# Altium schematic symbol library HDMI_TO_MIPI.SchLib: 18 symbols
Pins are listed as number, name and electrical type; pins without a type are passive.

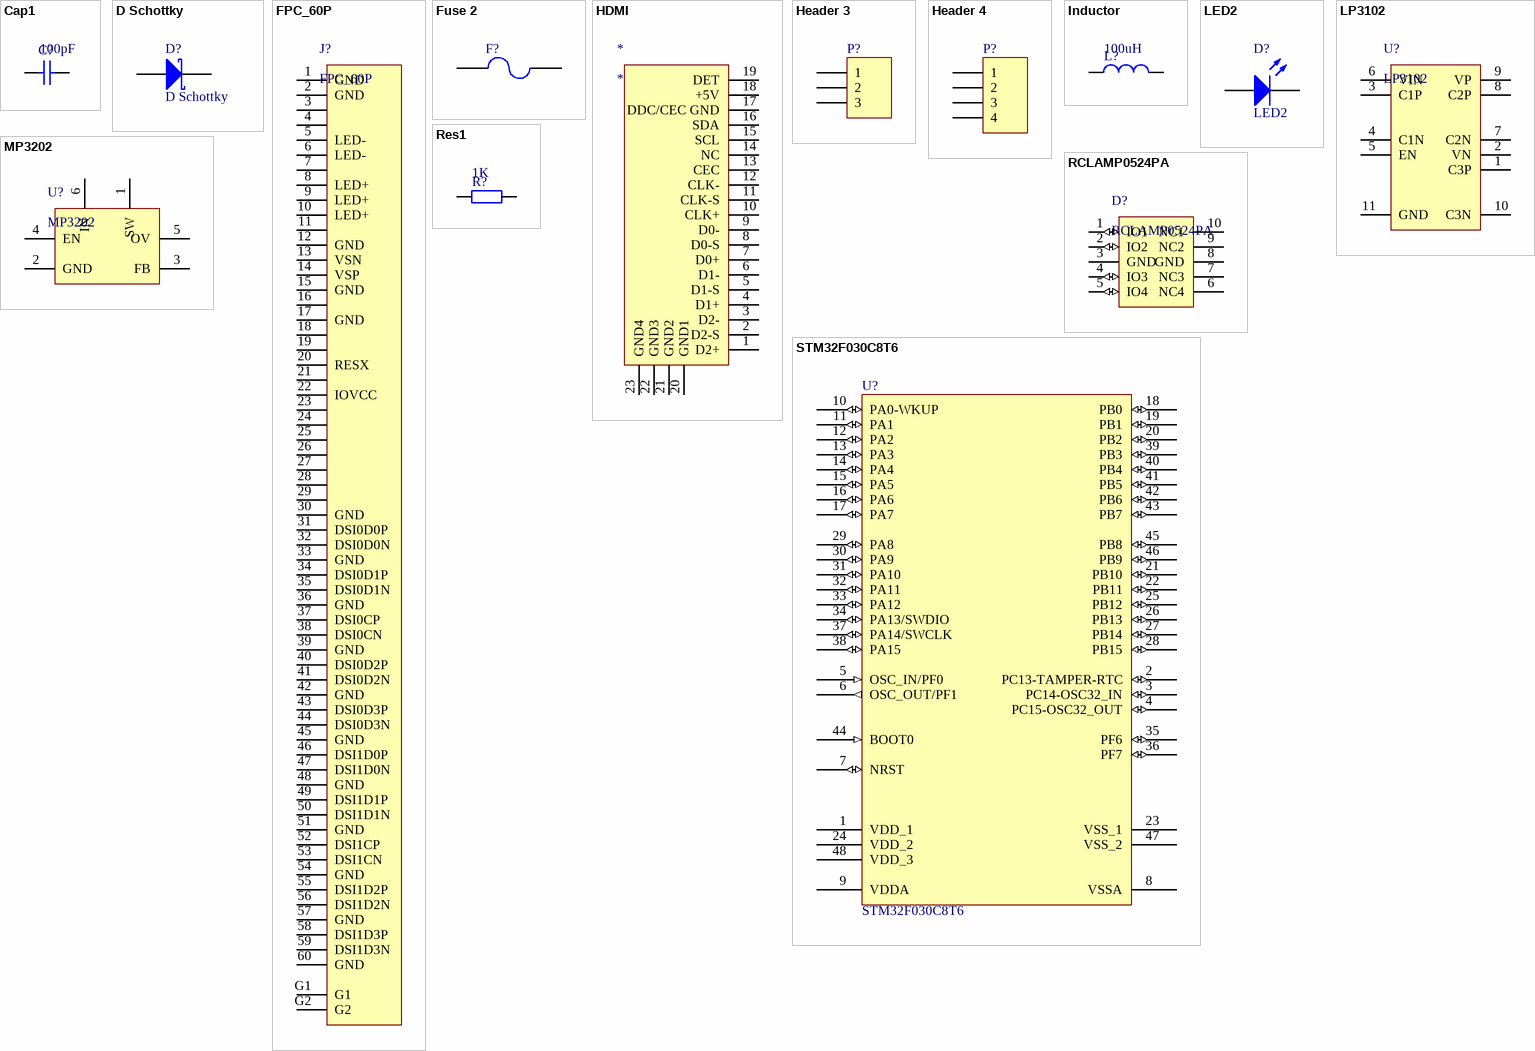
[diagram p0: symbols Cap1 to STM32F030C8T6]

## Cap1
designator C?  value 100pF  (hidden comment: Cap1)
Capacitor; Published: 8-Jun-2000; LatestRevisionDate: 17-Jul-2002; LatestRevisionNote: Re-released for DXP Platform.; PackageReference: RAD-0.3; Publisher: Altium Limited
footprint CAPC2012L (Chip Capacitor, Body 2.0x1.3mm, IPC High Density)
footprint CAPC2012M (Chip Capacitor, Body 2.0x1.3mm, IPC High Density)
footprint CAPC2012N (Chip Capacitor, Body 2.0x1.3mm, IPC Medium Density)
footprint CAPC1005L (Chip Capacitor, Body 1.0x0.5mm, IPC High Density)
footprint CAPC1005M (Chip Capacitor, Body 1.0x0.5mm, IPC Low Density)
footprint CAPC1005N (Chip Capacitor, Body 1.0x0.5mm, IPC Medium Density)
footprint CAPC1608L (Chip Capacitor, Body 1.6x0.8mm, IPC High Density)
footprint CAPC1608M (Chip Capacitor, Body 1.6x0.8mm, IPC Low Density)
footprint CAPC1608N (Chip Capacitor, Body 1.6x0.8mm, IPC Medium Density)
footprint CAPC3216L (Chip Capacitor, Body 3.2x1.6mm, IPC High Density)
footprint CAPC3216M (Chip Capacitor, Body 3.2x1.6mm, IPC Low Density)
footprint CAPC3216N (Chip Capacitor, Body 3.2x1.6mm, IPC Medium Density)
pins: 1, 2

## D Schottky
designator D?
Schottky Diode; Published: 8-Jun-2000; LatestRevisionDate: 17-Jul-2002; LatestRevisionNote: Re-released for DXP Platform.; PackageReference: SMB; Publisher: Altium Limited; Code_JEDEC: DO-214-AA
footprint DO-201AD (Diode, Axial; Body 9.5 x 5.3 mm (LxDia. max), Lead Dia. 1.32 mm (max))
footprint DO-7 (Diode, Axial; Body 7 x 2.7 mm (LxDia. max), Lead Dia. 0.53 mm (max))
footprint DO-35 (Diode, Axial; Body 3.8 x 1.9 mm (LxDia. max), Lead Dia. 0.53 mm (max))
footprint DO-35A (Diode, Axial; Body 4.6 x 1.9 mm (LxDia. max), Lead Dia. 0.53 mm (max))
footprint DO-41 (Diode, Axial; Body 5.2 x 2.7 mm (LxDia. max), Lead Dia. 0.86 mm (max))
footprint DO-204AL (Diode, Axial; Body 5.2 x 2.7 mm (LxDia. max), Lead Dia. 0.86 mm (max))
footprint DO-15-UP
footprint DO-214AC
footprint SOD-323 (SOD-323/SC-76; 2 Leads; Body 1.7 x 1.3 mm, (LxW))
pins: 1 A, 2 K

## FPC_60P
designator J?
footprint FPC0.5_60P
pins: 1 GND, 2 GND, 3, 4, 5 LED-, 6 LED-, 7, 8 LED+, 9 LED+, 10 LED+, 11, 12 GND, 13 VSN, 14 VSP, 15 GND, 16, 17 GND, 18, 19, 20 RESX, 21, 22 IOVCC, 23, 24, 25, 26, 27, 28, 29, 30 GND, 31 DSI0D0P, 32 DSI0D0N, 33 GND, 34 DSI0D1P, 35 DSI0D1N, 36 GND, 37 DSI0CP, 38 DSI0CN, 39 GND, 40 DSI0D2P, 41 DSI0D2N, 42 GND, 43 DSI0D3P, 44 DSI0D3N, 45 GND, 46 DSI1D0P, 47 DSI1D0N, 48 GND, 49 DSI1D1P, 50 DSI1D1N, 51 GND, 52 DSI1CP, 53 DSI1CN, 54 GND, 55 DSI1D2P, 56 DSI1D2N, 57 GND, 58 DSI1D3P, 59 DSI1D3N, 60 GND, G1, G2

## Fuse 2
designator F?
Fuse; Published: 8-Jun-2000; LatestRevisionDate: 17-Jul-2002; LatestRevisionNote: Re-released for DXP Platform.; PackageReference: PIN-W2/E2.8; Publisher: Altium Limited; PackageDescription: Thru-Hole; 2 Leads
simulation model FUSE (Spice Subcircuit)
footprint 1812 (Chip Capacitor, Body 4.5x3.2mm, IPC High Density)
footprint FUSE3216L (Body 3.2x1.6mm, IPC High Density)
footprint FUSE3216M (Body 3.2x1.6mm, IPC Low Density)
footprint FUSE3216N (Body 3.2x1.6mm, IPC Medium Density)
footprint FUSE2012L (Body 2.0x1.2mm, IPC Low Density)
footprint FUSE2012M (Body 2.0x1.2mm, IPC Low Density)
footprint FUSE2012N (Body 2.0x1.2mm, IPC Low Density)
pins: 1, 2

## HDMI
designator *
footprint HDMI19/0.5/S/H/F
pins: 1 D2+, 2 D2-S, 3 D2-, 4 D1+, 5 D1-S, 6 D1-, 7 D0+, 8 D0-S, 9 D0-, 10 CLK+, 11 CLK-S, 12 CLK-, 13 CEC, 14 NC, 15 SCL, 16 SDA, 17 DDC/CEC GND, 18 +5V, 19 DET, 20 GND1, 21 GND2, 22 GND3, 23 GND4

## Header 3
designator P?  (value not drawn)
Header, 3-Pin; LatestRevisionDate: 17-Jul-2002; LatestRevisionNote: Re-released for DXP Platform.; Publisher: Altium Limited
footprint HDR1X3 (Connector; Header; 4 Position)
footprint HX2.54-3
footprint PH2.0-3
footprint HDR1X3_1.27
pins: 1, 2, 3

## Header 4
designator P?  (value not drawn)
Header, 4-Pin; LatestRevisionDate: 17-Jul-2002; LatestRevisionNote: Re-released for DXP Platform.; Publisher: Altium Limited
footprint HDR1X4 (Connector; Header; 4 Position)
footprint HX2.54-4
footprint PH2.0-4
footprint HDR1X4_1.27
pins: 1, 2, 3, 4

## Inductor
designator L?  value 100uH  (hidden comment: Inductor)
Code_IEC: 1005; Published: 8-Jun-2000; LatestRevisionDate: 29-May-2009; LatestRevisionNote: IPC-7351 Footprint Added.; PackageReference: 0402-A; Publisher: Altium Limited; PackageDescription: Chip Inductor; Code_JEITA: 0402
footprint IND_0608_4.8
footprint DO-15-UP
footprint IND_0603
footprint IND_0805
footprint IND_10x10
footprint IND_1206 (Body 3.2x1.6mm, IPC Medium Density)
footprint IND_7032
footprint IND_252010
footprint IND_15x9
pins: 1, 2

## LED2
designator D?
Typical RED, GREEN, YELLOW, AMBER GaAs LED; Published: 8-Jun-2000; LatestRevisionDate: 17-Jul-2002; LatestRevisionNote: Re-released for DXP Platform.; PackageVersion: Feb-2002; PackageReference: 3.2X1.6X1.1; Publisher: Altium Limited; PackageDescription: SM LED; 2 Flat Leads
simulation model LED2 (Diode)
footprint CD1005-0402 (Chip Diode; Body 1.0 x 0.5 mm (LxW typ))
footprint CD1608-0603 (Chip Diode; Body 1.6 x 0.8 mm (LxW typ))
footprint CD2012-0805 (Chip Diode; Body 2.0 x 1.3 mm (LxW typ))
footprint CD3216-1206 (Chip Diode; Body 3.2 x 1.6 mm (LxW typ))
footprint CD1005-0402-L (Chip Diode; Body 1.0 x 0.5 mm (LxW typ))
footprint CD1608-0603-L (Footprint not found)
pins: 1 A, 2 K

## LP3102
designator U?
footprint LP3102 (SON, 10-Leads, Body 3.00x3.00mm, Pitch 0.50mm, Thermal Pad 2.50x1.49mm, IPC Medium Density)
pins: 1 C3P, 2 VN, 3 C1P, 4 C1N, 5 EN, 6 VIN, 7 C2N, 8 C2P, 9 VP, 10 C3N, 11 GND

## MP3202
designator U?
1.3A LED驱动(3串13并)
footprint SOT23-6_L (SOT23, 6-Leads, Body 2.9x1.6mm, Pitch 0.95mm, Lead Span 2.7mm, IPC High Density)
footprint SOT23-6_M (SOT23, 6-Leads, Body 2.9x1.6mm, Pitch 0.95mm, Lead Span 2.7mm, IPC Low Density)
footprint SOT23-6_N (SOT23, 6-Leads, Body 2.9x1.6mm, Pitch 0.95mm, Lead Span 2.7mm, IPC Medium Density)
pins: 1 SW, 2 GND, 3 FB, 4 EN, 5 OV, 6 IN

## RCLAMP0524PA
designator D?
footprint SLP2510P8
pins: 1 IO1 (io), 2 IO2 (io), 3 GND (power), 4 IO3 (io), 5 IO4 (io), 6 NC4 (power), 7 NC3 (power), 8 GND (power), 9 NC2 (power), 10 NC1 (power)

## Res1
designator R?  value 1K  (hidden comment: Res1)
Resistor; Published: 8-Jun-2000; LatestRevisionDate: 17-Jul-2002; LatestRevisionNote: Re-released for DXP Platform.; PackageReference: AXIAL-0.4; Publisher: Altium Limited
footprint RESC2012M (Chip Resistor, Body 2.0x1.2mm, IPC Low Density)
footprint RESC2012L (Chip Resistor, Body 2.0x1.2mm, IPC Low Density)
footprint RESC2012N (Chip Resistor, Body 2.0x1.2mm, IPC Low Density)
footprint RESC1005L (Chip Resistor, Body 1.1x0.5mm, IPC High Density)
footprint RESC1005M (Chip Resistor, Body 1.1x0.5mm, IPC Low Density)
footprint RESC1005N (Chip Resistor, Body 1.1x0.5mm, IPC Medium Density)
footprint RESC1608L (Chip Resistor, Body 1.6x0.8mm, IPC High Density)
footprint RESC1608M (Chip Resistor, Body 1.6x0.8mm, IPC Low Density)
footprint RESC1608N (Chip Resistor, Body 1.6x0.8mm, IPC Medium Density)
footprint RESC3216L (Chip Resistor, Body 3.2x1.6mm, IPC High Density)
footprint RESC3216M (Chip Resistor, Body 3.2x1.6mm, IPC Low Density)
footprint RESC3216N (Chip Resistor, Body 3.2x1.6mm, IPC Medium Density)
footprint RES0204
footprint RES2512
footprint RESC1005L-0.5 (Chip Resistor, Body 1.1x0.5mm, IPC High Density)
footprint RESC3225L (Chip Resistor, Body 3.2x2.5mm, IPC High Density)
footprint RESC3225M (Chip Resistor, Body 3.2x2.5mm, IPC Low Density)
footprint RESC3225N (Chip Resistor, Body 3.2x2.5mm, IPC Medium Density)
footprint RESC4532AL (Chip Resistor, Body 4.5x3.2mm, IPC High Density)
footprint RESC4532AM (Chip Resistor, Body 4.5x3.2mm, IPC Low Density)
footprint RESC4532AM (Chip Resistor, Body 4.5x3.2mm, IPC Low Density)
footprint RESC4532L (Chip Resistor, Body 4.5x3.2mm, IPC High Density)
footprint RESC4532M (Chip Resistor, Body 4.5x3.2mm, IPC Low Density)
footprint RESC4532N (Chip Resistor, Body 4.5x3.2mm, IPC Medium Density)
footprint RESC5025L (Chip Resistor, Body 5.0x2.5mm, IPC High Density)
footprint RESC5025M (Chip Resistor, Body 5.0x2.5mm, IPC Low Density)
footprint RESC5025N (Chip Resistor, Body 5.0x2.5mm, IPC Medium Density)
footprint RESC6332L (Chip Resistor, Body 6.3x3.2mm, IPC High Density)
footprint RESC6332M (Chip Resistor, Body 6.3x3.2mm, IPC Low Density)
footprint RESC6332N (Chip Resistor, Body 6.3x3.2mm, IPC Medium Density)
footprint RESC6432L (Chip Resistor, Body 6.4x3.2mm, IPC High Density)
footprint RESC6432M (Chip Resistor, Body 6.4x3.2mm, IPC Low Density)
footprint RESC6432N (Chip Resistor, Body 6.4x3.2mm, IPC Medium Density)
pins: 1, 2

## STM32F030C8T6
designator U?
STM32 ARM-based 32-bit MCU with 64 Kbytes Flash, 48-pin LQFP, Industrial Temperature; Published: 30-May-2008; DatasheetVersion: rev6, Mar-2008; PackageVersion: Mar-2008; PackageReference: LQFP48; Publisher: Altium Limited; PackageDescription: 48-Pin Low-Profile Quad Flat Pack, 7 x 7 mm Body, 0.5 mm Pitch (LQFP48); ComponentLink1Description: Manufacturer Link; ComponentLink1URL: www.st.com/stm32; ComponentLink2Description: Datasheet; ComponentLink2URL: http://www.st.com/stonline/products/literature/ds/13587.pdf
footprint LQFP48_L (Thin QFP, 48-Leads, Body 7x7mm, Pitch 0.5mm, IPC High Density)
footprint LQFP48_M (Thin QFP, 48-Leads, Body 7x7mm, Pitch 0.5mm, IPC Low Density)
footprint LQFP48_N (Thin QFP, 48-Leads, Body 7x7mm, Pitch 0.5mm, IPC Medium Density)
pins: 1 VDD_1 (power), 2 PC13-TAMPER-RTC (io), 3 PC14-OSC32_IN (io), 4 PC15-OSC32_OUT (io), 5 OSC_IN/PF0 (in), 6 OSC_OUT/PF1 (out), 7 NRST (io), 8 VSSA (power), 9 VDDA (power), 10 PA0-WKUP (io), 11 PA1 (io), 12 PA2 (io), 13 PA3 (io), 14 PA4 (io), 15 PA5 (io), 16 PA6 (io), 17 PA7 (io), 18 PB0 (io), 19 PB1 (io), 20 PB2 (io), 21 PB10 (io), 22 PB11 (io), 23 VSS_1 (power), 24 VDD_2 (power), 25 PB12 (io), 26 PB13 (io), 27 PB14 (io), 28 PB15 (io), 29 PA8 (io), 30 PA9 (io), 31 PA10 (io), 32 PA11 (io), 33 PA12 (io), 34 PA13/SWDIO (io), 35 PF6 (io), 36 PF7 (io), 37 PA14/SWCLK (io), 38 PA15 (io), 39 PB3 (io), 40 PB4 (io), 41 PB5 (io), 42 PB6 (io), 43 PB7 (io), 44 BOOT0 (in), 45 PB8 (io), 46 PB9 (io), 47 VSS_2 (power), 48 VDD_3 (power)

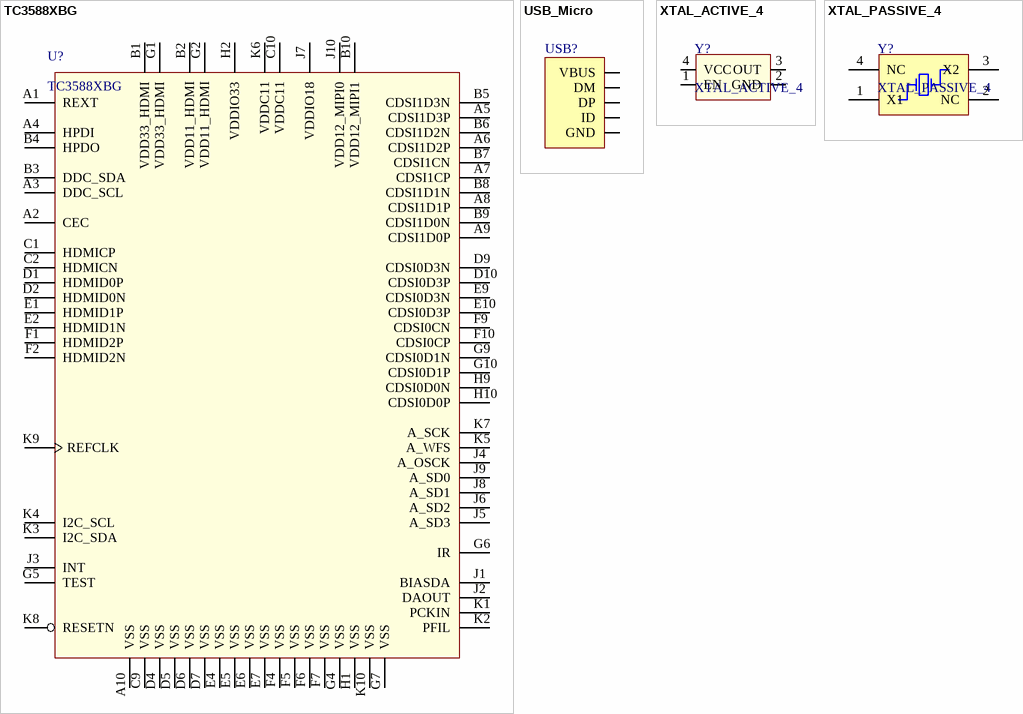
[diagram p1: symbols TC3588XBG to XTAL_PASSIVE_4]

## TC3588XBG
designator U?
footprint TC358870XBG (BGA, 80-Leads, Body 7.00x7.00mmx1.00mm, Pitch 0.65mm)
pins: A1 REXT, A2 CEC, A3 DDC_SCL, A4 HPDI, A5 CDSI1D3P, A6 CDSI1D2P, A7 CDSI1CP, A8 CDSI1D1P, A9 CDSI1D0P, A10 VSS, B1 VDD33_HDMI, B2 VDD11_HDMI, B3 DDC_SDA, B4 HPDO, B5 CDSI1D3N, B6 CDSI1D2N, B7 CDSI1CN, B8 CDSI1D1N, B9 CDSI1D0N, B10 VDD12_MIPI1, C1 HDMICP, C2 HDMICN, C9 VSS, C10 VDDC11, D1 HDMID0P, D2 HDMID0N, D4 VSS, D5 VSS, D6 VSS, D7 VSS, D9 CDSI0D3N, D10 CDSI0D3P, E1 HDMID1P, E2 HDMID1N, E4 VSS, E5 VSS, E6 VSS, E7 VSS, E9 CDSI0D3N, E10 CDSI0D3P, F1 HDMID2P, F2 HDMID2N, F4 VSS, F5 VSS, F6 VSS, F7 VSS, F9 CDSI0CN, F10 CDSI0CP, G1 VDD33_HDMI, G2 VDD11_HDMI, G4 VSS, G5 TEST, G6 IR, G7 VSS, G9 CDSI0D1N, G10 CDSI0D1P, H1 VSS, H2 VDDIO33, H9 CDSI0D0N, H10 CDSI0D0P, J1 BIASDA, J2 DAOUT, J3 INT, J4 A_OSCK, J5 A_SD3, J6 A_SD2, J7 VDDIO18, J8 A_SD1, J9 A_SD0, J10 VDD12_MIPI0, K1 PCKIN, K2 PFIL, K3 I2C_SDA, K4 I2C_SCL, K5 A_WFS, K6 VDDC11, K7 A_SCK, K8 RESETN, K9 REFCLK, K10 VSS

## USB_Micro
designator USB?  (value not drawn)
USB
footprint USB_Micro (5P 贴片 带定位柱)
footprint USB_Micro_U018 (5P 直插)
pins: 1 VBUS, 2 DM, 3 DP, 4 ID, 5 GND

## XTAL_ACTIVE_4
designator Y?
Crystal Oscillator; Published: 8-Jun-2000; LatestRevisionDate: 17-Jul-2002; LatestRevisionNote: Re-released for DXP Platform.; PackageReference: R38; Publisher: Altium Limited; PackageDescription: Crystal, Thru-Hole; 2 Leads; Body 3.1 x 8.2 mm (Dia.xH)
footprint XTAL-3225
footprint XTAL-5032
pins: 1 EN, 2 GND, 3 OUT, 4 VCC

## XTAL_PASSIVE_4
designator Y?
Crystal Oscillator; Published: 8-Jun-2000; LatestRevisionDate: 17-Jul-2002; LatestRevisionNote: Re-released for DXP Platform.; PackageReference: R38; Publisher: Altium Limited; PackageDescription: Crystal, Thru-Hole; 2 Leads; Body 3.1 x 8.2 mm (Dia.xH)
footprint XTAL-5032
footprint XTAL-3225
pins: 1 X1, 2 NC, 3 X2, 4 NC